# EAGLE library part ATTINY212/412 (library bt_avr)
ATtiny412/212 The ATtiny212/412 are members of the tinyAVR ® 1-series of microcontrollers, using the AVR ® processor with hardware multiplier, running at up to 20 MHz, with 2/4 KB Flash, 128/256 bytes of SRAM, and 64/128 bytes of EEPROM in an 8-pin package. The tinyAVR ® 1-series uses the latest technologies with a flexible, low-power architecture including Event System and SleepWalking, accurate analog features, and Core Independent Peripherals. ATtiny212-412-DataSheet.pdf <https://ww1.microchip.com/downloads/en/DeviceDoc/ATtiny212-412-DataSheet-DS40001911B.pdf>
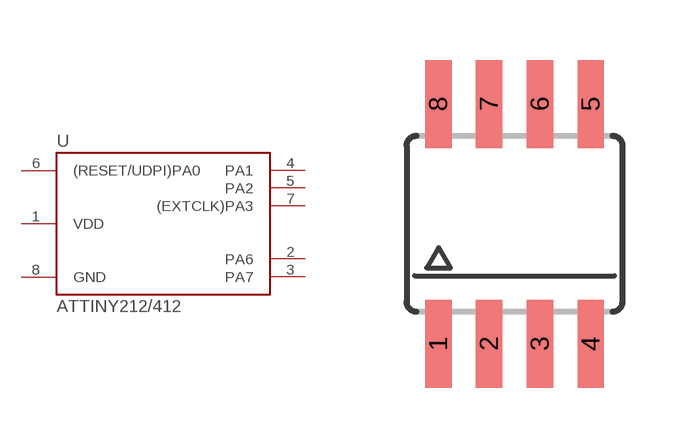
[diagram p11: symbol with the pads of SOIC8N; footprint SOIC8N]

Designator prefix U

## ATTINY212/412  [SOIC8N]
1  VDD  pwr
2  PA6
3  PA7
4  PA1
5  PA2
6  (RESET/UDPI)PA0
7  (EXTCLK)PA3
8  GND  pwr

## Footprint SOIC8N (pad centres in mm)
Wide Plastic Gull Wing Small Outline Package
smd 0.66 x 2.2: 1 -1.905,-3; 2 -0.635,-3; 3 0.635,-3; 4 1.905,-3; 5 1.905,3; 6 0.635,3; 7 -0.635,3; 8 -1.905,3